# EAGLE library part SWITCH:8PST (library QuantumOptics)
8PST DIP Switch, e.g. E-Switch KAP1108E.
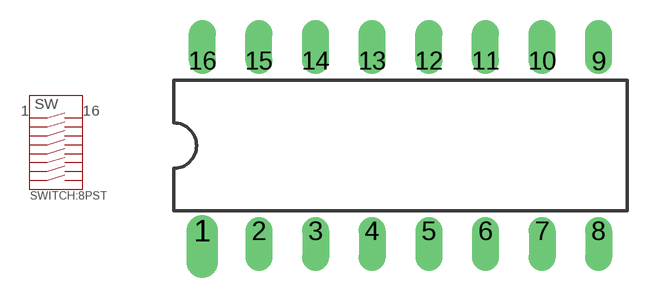
[diagram p139: symbol with the pads of DIL16; footprint DIL16]

Designator prefix SW

## SWITCH:8PST  [DIL16]
1  1A
2  2A
3  3A
4  4A
5  5A
6  6A
7  7A
8  8A
9  8B
10  7B
11  6B
12  5B
13  4B
14  3B
15  2B
16  1B

## Footprint DIL16 (pad centres in mm)
Dual In Line Package, 16 pin on 0.1" x 0.3" grid, 0.028" holes (less plating). Can take gullwing SMT.
drill 0.711 pad 1.422 offset: 1 -8.89,-3.81
drill 0.711 offset: 2 -6.35,-3.81; 3 -3.81,-3.81; 4 -1.27,-3.81; 5 1.27,-3.81; 6 3.81,-3.81; 7 6.35,-3.81; 8 8.89,-3.81; 9 8.89,3.81; 10 6.35,3.81; 11 3.81,3.81; 12 1.27,3.81; 13 -1.27,3.81; 14 -3.81,3.81; 15 -6.35,3.81; 16 -8.89,3.81